# EAGLE library part BLUETOOTH-RN42 (library SparkFun-RF)
Bluetooth SMD module
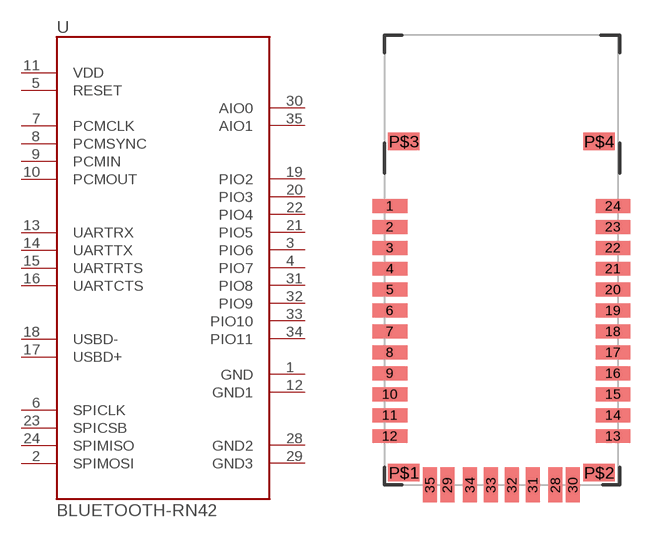
[diagram p5: symbol with the pads of RN42; footprint RN42]

Designator prefix -

## BLUETOOTH-RN42"  [RN42]
1  GND
2  SPIMOSI
3  PIO6
4  PIO7
5  RESET
6  SPICLK
7  PCMCLK
8  PCMSYNC
9  PCMIN
10  PCMOUT
11  VDD
12  GND1
13  UARTRX
14  UARTTX
15  UARTRTS
16  UARTCTS
17  USBD+
18  USBD-
19  PIO2
20  PIO3
21  PIO5
22  PIO4
23  SPICSB
24  SPIMISO
28  GND2
29  GND3
30  AIO0
31  PIO8
32  PIO9
33  PIO10
34  PIO11
35  AIO1

## Footprint RN42 (pad centres in mm)
smd 2 x 0.8: 1 0.3,16; 2 0.3,14.8; 3 0.3,13.6; 4 0.3,12.4; 5 0.3,11.2; 6 0.3,10; 7 0.3,8.8; 8 0.3,7.6; 9 0.3,6.4; 10 0.3,5.2; 11 0.3,4; 12 0.3,2.8; 13 13.1,2.8; 14 13.1,4; 15 13.1,5.2; 16 13.1,6.4; 17 13.1,7.6; 18 13.1,8.8; 19 13.1,10; 20 13.1,11.2; 21 13.1,12.4; 22 13.1,13.6; 23 13.1,14.8; 24 13.1,16
smd 0.8 x 2: 28 9.8,0; 29 3.6,0; 30 10.8,0; 31 8.5,0; 32 7.3,0; 33 6.1,0; 34 4.9,0; 35 2.6,0
smd 1.8 x 1: P$1 1.1,0.7; P$2 12.3,0.7; P$3 1.1,19.7; P$4 12.3,19.7